# Altium schematic symbol library fairy_lights.SCHLIB: 10 symbols
Pins are listed as number, name and electrical type; pins without a type are passive.

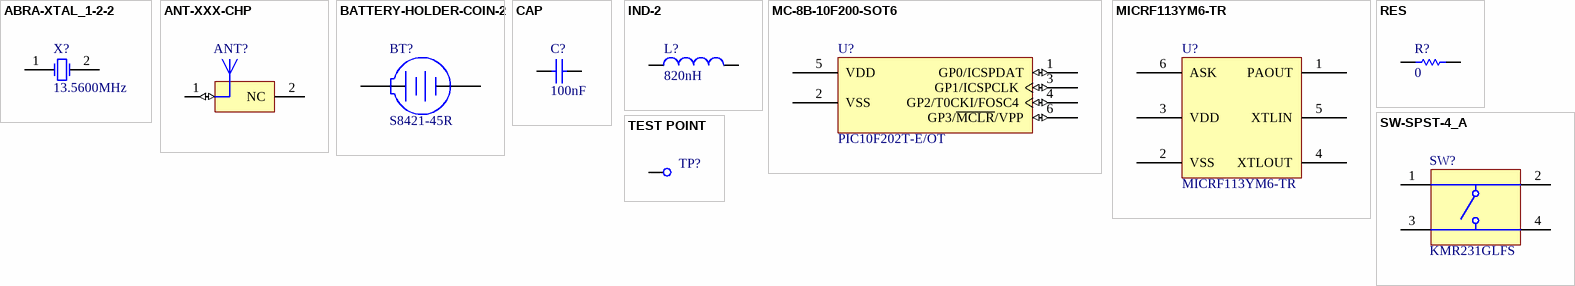
[diagram p0: symbols ABRA-XTAL_1-2-2 to TEST POINT]

## ABRA-XTAL_1-2-2
designator X?, comment Frequency: 13.5600MHz  (hidden comment: ECS-135.6-20-3X-TR)
ComponentLink1URL: http://www.abracon.com/; ComponentLink2Description: Datasheet; ComponentLink2URL: http://www.abracon.com/Resonators/ABLS2.pdf; ComponentLink1Description: Manufacturer URL
footprint ABRA-ABLS2-2_V (SMD, 2-Leads, Body 11.4x4.7mm, Height 3.3mm)
pins: 1 X1, 2 X2

## ANT-XXX-CHP
designator ANT?
footprint ANT-2.4-CHP (SM Antenna, 2-Lead, Body 6.5x2.2x1.0mm)
pins: 1 FEED (io), 2 NC

## BATTERY-HOLDER-COIN-2
designator BT?, comment S8421-45R
Bettery Coin Cell Holder, Suitable for CR2032, -40 to 105 degC, 2-Pin SMD, RoHS, Tape and Reel; Manufacturer: Harwin; Number of Batteries: 1; Battery Cell Size: 20mm; RoHS: Details; Datasheet Version: Rev. 3, 01/2014; Dimensions: 20mm; Product: BatteryHolders; Datasheet URL: https://cdn.harwin.com/pdfs/S8421R.pdf; Package Reference: S8421-45R; Series: S8; Type: BatteryRetainer; Tradename: EZBoardware; Mounting Style: SMD/SMT; Factory Pack Quantity: 500; Package Description: 2-Pin Surface Mount Holder, Body 23.79 x 15.6 mm; Material: PolyphenyleneSulfide(PPS); Mounting Technology: SurfaceMount; Product Category: CoinCellBatteryHolders; Manufacturer URL: https://www.harwin.com/; Packaging: Reel; Brand: Harwin; Contact Plating: PhosphorBronze
footprint HRWN-S8421-45R_V (Holder, 2-Leads, Body 23.79x15.6mm)
pins: 1 +, 2 -

## CAP
designator C?, comment value 100nF  (hidden comment: CAP 100nF 10V 0603(1608))
CAP 100nF 10V ±20% 0603 (1608 Metric) Thickness 1mm SMD; Tolerance: Â±20%; Case-Metric: 1608; Case-EIA: 0603; Max Thickness: 1 mm; Rated Voltage: 10 V; Technology: SMT
footprint CAPC0603(1608)100_N (Chip Capacitor, Body 1.6x0.8mm, Height 1.0mm, IPC Medium Density)
footprint CAPC0603(1608)100_M (Chip Capacitor, Body 1.6x0.8mm, Height 1.0mm, IPC Low Density)
footprint CAPC0603(1608)100_L (Chip Capacitor, Body 1.6x0.8mm, Height 1.0mm, IPC High Density)
pins: 1, 2
1 alternate drawing of the same symbol

## IND-2
designator L?  Inductance: 820nH
footprint VISH-IHLP2525CZ-01_V (Molded Inductor, 2-Leads, Body 6.72x6.72mm)
pins: 1, 2

## MC-8B-10F200-SOT6
designator U?, comment PIC10F202T-E/OT
8-bit Flash Microcontroller, 512 (x12-Bit words) Program Memory, 24 Bytes Data Memory, 6-Pin SOT-23, Extended Temperature, Tape and Reel; PackageVersion: revBB, Aug-2009; PackageReference: SOT-23-OT6; DatasheetVersion: revD, Apr-2007; Code_IPC: SOT26A-6; PackageDescription: 6-Lead Plastic Small Outline Transistor (OT) [SOT-23]
footprint SOT-23-OT6_N (SOT23, 6-Leads, Body 2.9x1.6mm, Pitch 0.95mm, Lead Span 2.7mm, IPC Medium Density)
footprint SOT-23-OT6_L (SOT23, 6-Leads, Body 2.9x1.6mm, Pitch 0.95mm, Lead Span 2.7mm, IPC High Density)
footprint SOT-23-OT6_M (SOT23, 6-Leads, Body 2.9x1.6mm, Pitch 0.95mm, Lead Span 2.7mm, IPC Low Density)
pins: 1 GP0/ICSPDAT (io), 2 VSS (power), 3 GP1/ICSPCLK (io), 4 GP2/T0CKI/FOSC4 (io), 5 VDD (power), 6 GP3/~{MCLR}/VPP (io)

## MICRF113YM6-TR
designator U?
RF Transmitter ASK 300MHz ~ 450MHz 10dBm 10 kbps PCB, Surface Mount Antenna SOT-23-6
footprint SOT-23-OT6_N (SOT23, 6-Leads, Body 2.9x1.7mm, Pitch 0.95mm, Lead Span 2.8mm, IPC Medium Density)
pins: 1 PAOUT, 2 VSS, 3 VDD, 4 XTLOUT, 5 XTLIN, 6 ASK

## RES
designator R?, comment value 0  (hidden comment: RES 0603(1608))
RES 0603 (1608 Metric); Case-Metric: 1608; Power: None; Case-EIA: 0603; Technology: SMT; Tolerance: None
footprint RESC0603(1608)_N (Chip Resistor, Body 1.6x0.8mm, IPC Medium Density)
pins: 1, 2
1 alternate drawing of the same symbol

## SW-SPST-4_A
designator SW?, comment KMR231GLFS
Switch Tactile, SPST, 50 mA, 32 V, -40 to 85 degC, 4-Pin SMD, RoHS, Tape and Reel; Manufacturer: C&K Components; Mechanical Life: 150000Cycles; Switch Configuration: N.O.; Actuator Style: Button; Ground Terminal: Yes; Maximum DC Voltage Rating: 32V; Minimum Insulation Resistance: >=1000MOhm; Dielectric Strength: >=250Vrms; Operating Force: 3N; Illumination Type: N/R; Body Orientation: Straight; Contact Rating @ Voltage: 1A; Actuator Length: 0.5mm; Operating Temperature: -40to85C; Electrical Life: N/A; Housing Material: N/A; ECCN: EAR99; Pole Throw Configuration: SPST; Contact Plating: Silver; Dimension: 2.8x4.6x1.9mm; Type: Micro-Miniature; Product Weight: N/A; Package Description: 4-Pin Surface Mount Device, Body 4.6 x 2.8 mm; Actuator Color: N/A; HTS: 8536501199; Mounting Technology: SurfaceMount; Mounting: SurfaceMount,GullWing; Seal Location: N/A; Base Material: N/A; Family: KMR2; Part No: KMR231GLFS; Datasheet Version: 06/2016; Contact Material: Silver; Package Reference: KMR231GLFS; Manufacturer URL: http://www.ckswitches.com/; Maximum AC Voltage Rating: N/A; Datasheet URL: http://www.ck-components.com/media/1479/kmr2.pdf; RoHS: Yes; Seal Description: N/A; Packaging: TapeandReel; Supplier: C&KComponents
footprint CKCP-KMR231GLFS (SMD, 4-Leads, Body 4.6x2.8mm)
pins: 1, 2, 3, 4

## TEST POINT
designator TP?  (value not drawn)
Generic Test Point
pins: 1